# Altium integrated library amis.IntLib: 1 symbol
Pins are listed as number, name and electrical type; pins without a type are passive.

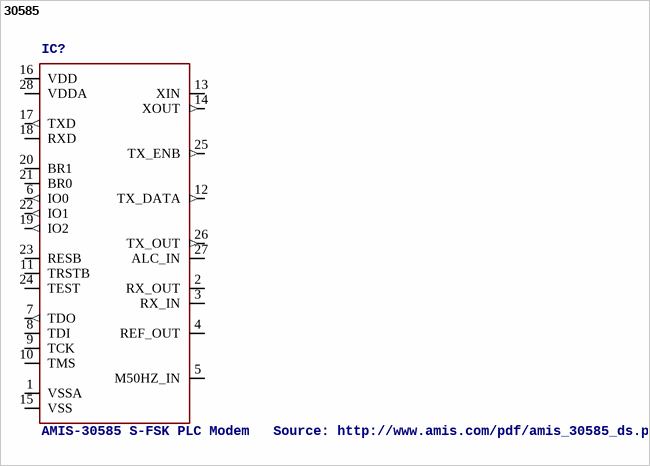
[diagram p0: symbol 30585]

## 30585
designator IC?, comment AMIS-30585 S-FSK PLC Modem   Source: http://www.amis.com/pdf/amis_30585_ds.pdf
OC_FARNELL: unknown; OC_NEWARK: unknown
footprint PLCC28S
pins: 1 VSSA, 2 RX_OUT, 3 RX_IN, 4 REF_OUT, 5 M50HZ_IN, 6 IO0 (out), 7 TDO (out), 8 TDI, 9 TCK, 10 TMS, 11 TRSTB, 12 TX_DATA (out), 13 XIN, 14 XOUT (out), 15 VSS, 16 VDD, 17 TXD (out), 18 RXD, 19 IO2 (out), 20 BR1, 21 BR0, 22 IO1 (out), 23 RESB, 24 TEST, 25 TX_ENB (out), 26 TX_OUT (out), 27 ALC_IN, 28 VDDA